# Altium footprint library footprints.PcbLib: 154 footprints (part 9 of 10)
Each footprint in its own frame and in the unit in brackets; x right, y up, seen from the top. Pads: shape width x height; smd on the part's side, far side on the other; paste and mask are expansions set on the pad; w line width, h text height; cw(c..) or ccw(c..) is an arc to the next point about the centre after c.
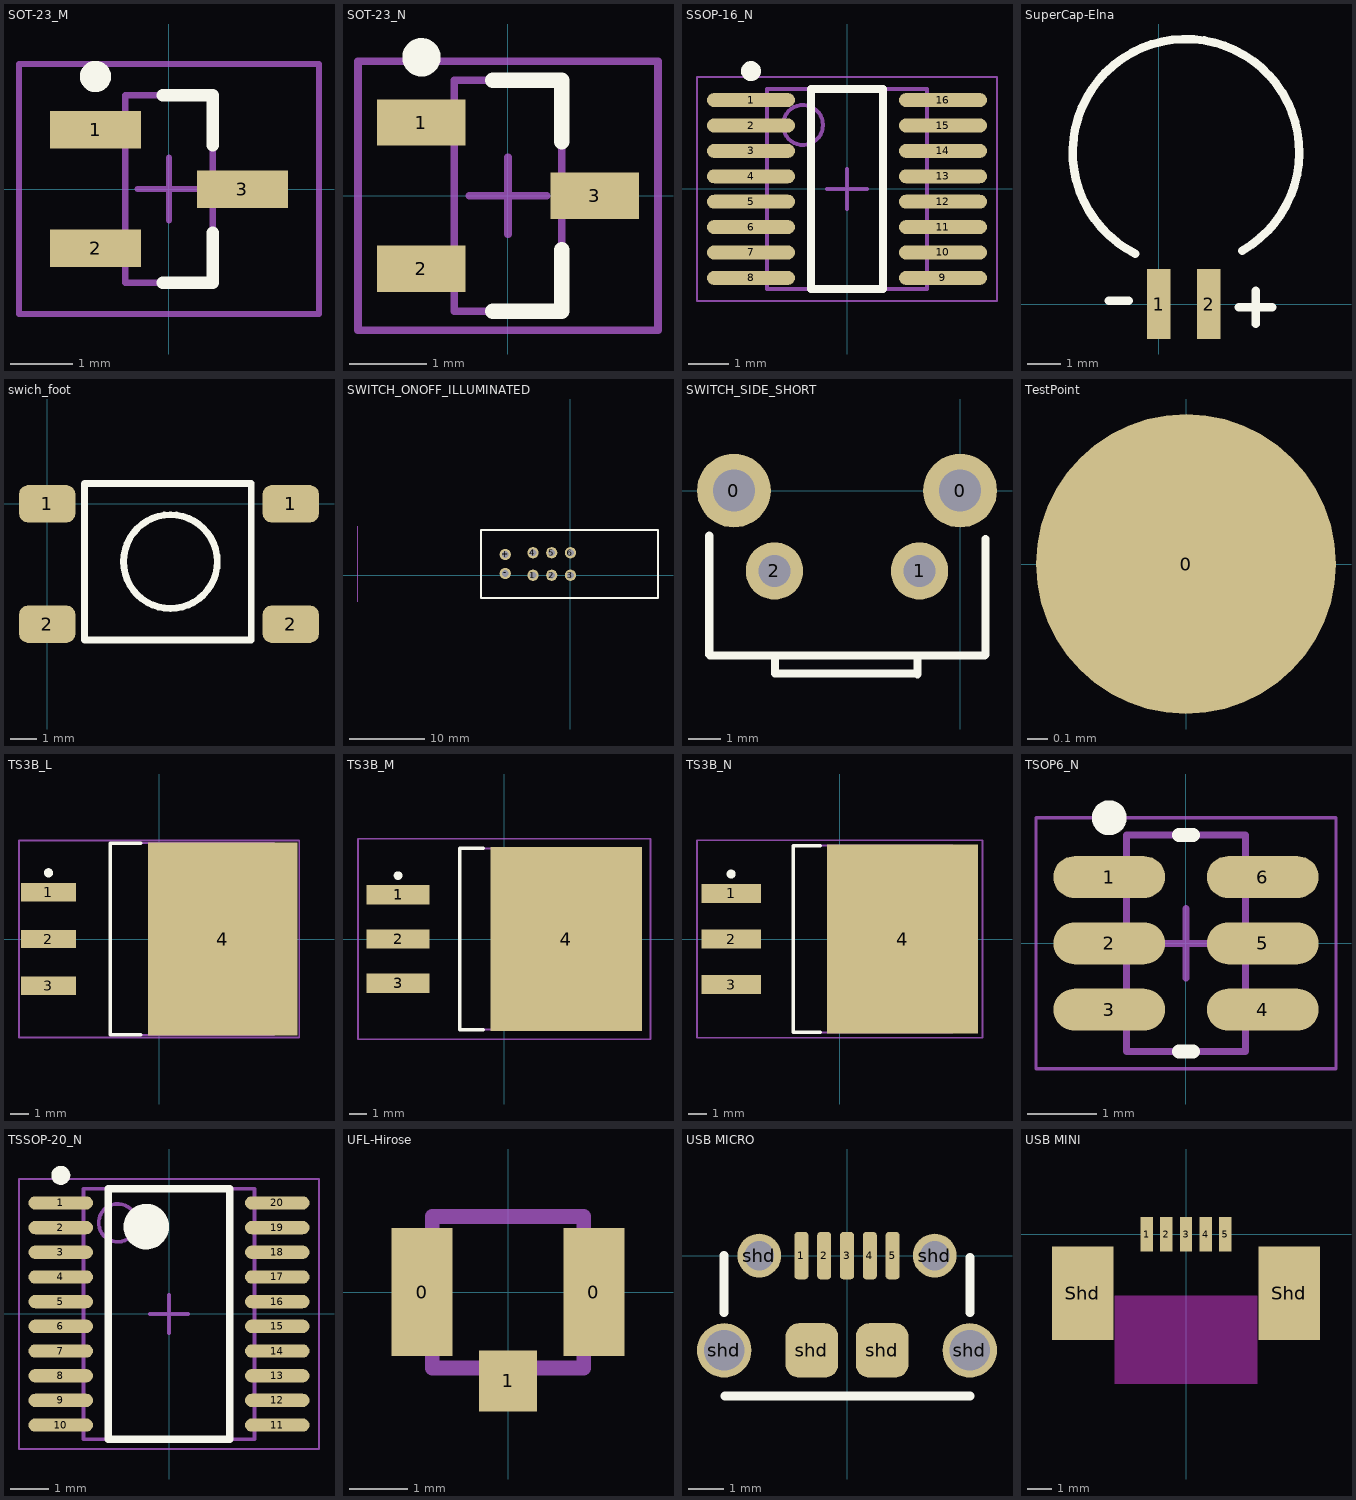
[diagram p8: the footprints below, top view; thin cyan lines are the x and y axes]

## SOT-23_M [mm] "SOT23, 3-Leads, Body 2.9x1.3mm, Pitch 0.95mm, Lead Span 2.5mm, IPC Low Density"
height 1.1
pads (3):
  rect 1.45x0.6 smd: 1(-1.175,0.95) 2(-1.175,-0.95) 3(1.175,0)
Top Overlay:
  circle w0.25: c-1.175,1.8 r0.125
  lines w0.2: -0.1,-1.5 0.7,-1.5 0.7,-0.7 ; -0.1,1.5 0.7,1.5 0.7,0.7
Mechanical 13:
  lines w0.1: -0.7,-1.5 0.7,-1.5 0.7,1.5 -0.7,1.5 -0.7,-1.5
Mechanical 15:
  lines w0.1: -0.5,0 0.5,0 ; 0,-0.5 0,0.5 ; -2.4,-2 2.4,-2 2.4,2 -2.4,2 -2.4,-2
3D body: height 1.1, standoff 0, extent -0.7,-1.5 0.7,1.5

## SOT-23_N [mm] "SOT23, 3-Leads, Body 2.9x1.3mm, Pitch 0.95mm, Lead Span 2.5mm, IPC Medium Density"
height 1.1
pads (3):
  rect 1.15x0.6 smd: 1(-1.125,0.95) 2(-1.125,-0.95) 3(1.125,0)
Top Overlay:
  circle w0.25: c-1.125,1.8 r0.125
  lines w0.2: -0.2,-1.5 0.7,-1.5 0.7,-0.7 ; -0.2,1.5 0.7,1.5 0.7,0.7
Mechanical 13:
  lines w0.1: -0.7,-1.5 0.7,-1.5 0.7,1.5 -0.7,1.5 -0.7,-1.5
Mechanical 15:
  lines w0.1: -0.5,0 0.5,0 ; 0,-0.5 0,0.5 ; -1.95,-1.75 1.95,-1.75 1.95,1.75 -1.95,1.75 -1.95,-1.75
3D body: height 1.1, standoff 0, extent -0.7,-1.5 0.7,1.5

## SSOP-16_N [mm] "SOP, 16-Leads, Body 4,90x3,90mm, Pitch 0,64mm, IPC Medium Density"
height 1.76
pads (16):
  oval 2.2x0.35 smd: 1(-2.4,2.222) 2(-2.4,1.587) 3(-2.4,0.952) 4(-2.4,0.317) 5(-2.4,-0.318) 6(-2.4,-0.953) 7(-2.4,-1.588) 8(-2.4,-2.223) 9(2.4,-2.223) 10(2.4,-1.588) 11(2.4,-0.953) 12(2.4,-0.318) 13(2.4,0.317) 14(2.4,0.952) 15(2.4,1.587) 16(2.4,2.222)
Top Overlay:
  circle w0.25: c-2.4,2.947 r0.125
  lines w0.2: -0.9,-2.5 -0.9,2.5 0.9,2.5 0.9,-2.5 -0.9,-2.5
Mechanical 13:
  circle w0.1: c-1.1,1.6 r0.5
  lines w0.1: -2,-2.5 -2,2.5 2,2.5 2,-2.5 -2,-2.5
Mechanical 15:
  lines w0.05: -3.75,-2.8 -3.75,2.8 3.75,2.8 3.75,-2.8 -3.75,-2.8
  lines w0.1: -0.5,0 0.5,0 ; 0,-0.5 0,0.5
3D body: height 1.76, standoff 0.25, extent -2,-2.5 2,2.5

## SuperCap-Elna [mm]
pads (2):
  rect 0.7x2.1 smd: 1(0,0) 2(1.5,0)
Top Overlay:
  lines w0.254: -1.5,0.1 -0.9,0.1 ; -0.707,1.511 cw(c0.813,4.552) 2.5,1.6 ; 2.4,-0.1 3.4,-0.1 ; 2.9,-0.6 2.9,0.4
3D body: height 1.8, standoff 0, extent -2.473,1.307 4.3,8.093

## swich_foot [mil]
pads (4):
  rrect50% 83x55 smd: 1(0,0) 1(358,0) 2(0,-177) 2(358,-177)
Top Overlay:
  circle w10: c181.1,-85 r68.9
  lines w10: 55,-200 55,30 300,30 300,-200 55,-200
3D body: height 118.11, standoff 0, extent 57.09,-200.79 300.2,28.54
3D body: height 137.8, standoff 118.11, extent 114.72,-157.34 251.97,-19.81

## SWITCH_ONOFF_ILLUMINATED [mm]
pads (8):
  round 1.5 hole 0.9: 1(-5,0) 2(-2.5,0) 3(0,0) 4(-5,3) 5(-2.5,3) 6(0,3) +(-8.7,2.77) -(-8.7,0.23)
Top Overlay:
  lines w0.254: -11.938,-3.023 11.684,-3.023 11.684,6.045 -11.938,6.045 -11.938,-2.972
Mechanical 13:
  lines w0.127: -28.35,-3.525 -28.35,6.525
3D body: height 10.79, standoff -3.6, extent -31.657,-3.531 11.693,6.565

## SWITCH_SIDE_SHORT [mil]
pads (4):
  round 90 hole 51: 0(-276,0) 0(0,0)
  round 70 hole 39: 1(-49.5,-98) 2(-226.5,-98)
Top Overlay:
  lines w10: -306,-55 -306,-200 -305,-201 30,-201 31,-200 31,-59 ; -226,-201 -226,-223 -53,-223 -52,-224 -52,-203
3D body: height 291.34, standoff -145.67, extent -305.89,-223.46 31.9,58.04

## TestPoint [mm]
pads (1):
  round 1.5 smd: 0(0,0)

## TS3B_L [mm] "D2-PAK, 4-Leads, Body 8.6x10.2mm, Pitch 2.54mm, Lead Span 14.2mm, IPC High Density"
height 4.64
pads (4):
  rect 3x1 smd: 1(-6,2.54) 2(-6,0) 3(-6,-2.54)
  rect 8.1x10.45 smd: 4(3.45,0)
Top Overlay:
  circle w0.25: c-6,3.59 r0.125
  lines w0.2: -1,-5.2 -2.65,-5.2 -2.65,5.2 -1,5.2
Mechanical 13:
  lines w0.1: -2.65,-5.2 -2.65,5.2 6.24,5.2 6.24,-5.2 -2.65,-5.2
Mechanical 15:
  lines w0.1: -0.5,0 0.5,0 ; 0,-0.5 0,0.5 ; -7.6,-5.35 -7.6,5.35 7.6,5.35 7.6,-5.35 -7.6,-5.35
3D body: height 4.64, standoff 0, extent -2.649,-5.199 6.239,5.199

## TS3B_M [mm] "D2-PAK, 4-Leads, Body 8.6x10.2mm, Pitch 2.54mm, Lead Span 14.2mm, IPC Low Density"
height 4.64
pads (4):
  rect 3.6x1.1 smd: 1(-6.1,2.54) 2(-6.1,0) 3(-6.1,-2.54)
  rect 8.7x10.55 smd: 4(3.55,0)
Top Overlay:
  circle w0.25: c-6.1,3.64 r0.125
  lines w0.2: -1.2,-5.2 -2.55,-5.2 -2.55,5.2 -1.2,5.2
Mechanical 13:
  lines w0.1: -2.55,-5.2 6.34,-5.2 6.34,5.2 -2.55,5.2 -2.55,-5.2
Mechanical 15:
  lines w0.1: -0.5,0 0.5,0 ; 0,-0.5 0,0.5 ; -8.4,-5.75 8.4,-5.75 8.4,5.75 -8.4,5.75 -8.4,-5.75
3D body: height 4.64, standoff 0, extent -2.549,-5.199 6.339,5.199

## TS3B_N [mm] "D2-PAK, 4-Leads, Body 8.6x10.2mm, Pitch 2.54mm, Lead Span 14.2mm, IPC Medium Density"
height 4.64
pads (4):
  rect 3.3x1.05 smd: 1(-6.05,2.54) 2(-6.05,0) 3(-6.05,-2.54)
  rect 8.4x10.5 smd: 4(3.5,0)
Top Overlay:
  circle w0.25: c-6.05,3.615 r0.125
  lines w0.2: -1.1,-5.2 -2.6,-5.2 -2.6,5.2 -1.1,5.2
Mechanical 13:
  lines w0.1: -2.6,-5.2 -2.6,5.2 6.29,5.2 6.29,-5.2 -2.6,-5.2
Mechanical 15:
  lines w0.1: -0.5,0 0.5,0 ; 0,-0.5 0,0.5 ; -7.95,-5.5 -7.95,5.5 7.95,5.5 7.95,-5.5 -7.95,-5.5
3D body: height 4.64, standoff 0, extent -2.599,-5.199 6.289,5.199

## TSOP6_N [mm] "TSOP, 6-Leads, Body 3,00x1,50mm, Pitch 0,95mm, IPC Medium Density"
height 1.1
pads (6):
  oval 1.6x0.6 smd: 1(-1.1,0.95) 2(-1.1,0) 3(-1.1,-0.95) 4(1.1,-0.95) 5(1.1,0) 6(1.1,0.95)
Top Overlay:
  circle w0.25: c-1.1,1.8 r0.125
  lines w0.2: -0.1,-1.55 0.1,-1.55 ; -0.1,1.55 0.1,1.55
Mechanical 13:
  lines w0.1: -0.85,-1.55 0.85,-1.55 0.85,1.55 -0.85,1.55 -0.85,-1.55
Mechanical 15:
  lines w0.05: -2.15,-1.8 2.15,-1.8 2.15,1.8 -2.15,1.8 -2.15,-1.8
  lines w0.1: -0.5,0 0.5,0 ; 0,-0.5 0,0.5
3D body: height 1.1, standoff 0.01, extent -0.85,-1.55 0.85,1.55

## TSSOP-20_N [mm] "TSOP, 20-Leads, Body 6,50x4,40mm, Pitch 0,65mm, IPC Medium Density"
height 1.2
pads (20):
  oval 1.7x0.35 smd: 1(-2.85,2.925) 2(-2.85,2.275) 3(-2.85,1.625) 4(-2.85,0.975) 5(-2.85,0.325) 6(-2.85,-0.325) 7(-2.85,-0.975) 8(-2.85,-1.625) 9(-2.85,-2.275) 10(-2.85,-2.925) 11(2.85,-2.925) 12(2.85,-2.275) 13(2.85,-1.625) 14(2.85,-0.975) 15(2.85,-0.325) 16(2.85,0.325) 17(2.85,0.975) 18(2.85,1.625) 19(2.85,2.275) 20(2.85,2.925)
Top Overlay:
  circle w0.25: c-2.85,3.65 r0.125
  circle w0.6: c-0.6,2.3 r0.3
  lines w0.2: -1.6,-3.3 -1.6,3.3 1.6,3.3 1.6,-3.3 -1.6,-3.3
Mechanical 13:
  circle w0.1: c-1.35,2.4 r0.5
  lines w0.1: -2.25,-3.3 -2.25,3.3 2.25,3.3 2.25,-3.3 -2.25,-3.3
Mechanical 15:
  lines w0.05: -3.95,-3.55 -3.95,3.55 3.95,3.55 3.95,-3.55 -3.95,-3.55
  lines w0.1: -0.5,0 0.5,0 ; 0,-0.5 0,0.5
3D body: height 1.2, standoff 0.15, extent -2.25,-3.3 2.25,3.3

## UFL-Hirose [mm]
pads (3):
  rect 1.05x2.2 smd: 0(-1.475,0) 0(1.475,0)
  rect 1x1.05 smd: 1(0,-1.525)
Mechanical 13:
  lines w0.254: -1.3,-1.3 1.3,-1.3 1.3,1.3 -1.3,1.3 -1.3,-1.3
3D body: height 0.35, standoff 0, extent -1.3,-1.3 1.3,1.3
3D body: height 1.25, standoff 0, extent -0.992,-0.998 1,0.998

## USB MICRO [mm]
pads (11):
  rrect50% 0.4x1.35 smd: 1(-1.3,0) 2(-0.65,0) 3(0,0) 4(0.65,0) 5(1.3,0)
  round 1.55 hole 1.15: shd(-3.5,-2.7) shd(3.5,-2.7)
  round 1.25 hole 0.85: shd(-2.5,0) shd(2.5,0)
  rrect50% 1.5x1.55 smd: shd(-1,-2.7) shd(1,-2.7)
Top Overlay:
  lines w0.254: -3.5,-1.625 -3.5,0 ; -3.475,-4 3.5,-4 ; 3.5,-1.625 3.5,-0.05
3D body: height 2.68, standoff -0.24, extent -3.962,-5.101 4.012,0.325

## USB MINI [mm]
pads (8):
  rect 0.5x1.4 smd: 1(-1.6,0) 2(-0.8,0) 3(0,0) 4(0.8,0) 5(1.6,0)
  rect 2.5x3.8 smd: Shd(-4.2,-2.4) Shd(4.2,-2.4)
  rect 5.8x3.6 on Keep-Out: ""(0,-4.3)
3D body: height 4.4, standoff -0.5, extent -4.95,-7.143 4.95,0